# Altium integrated library Lichuang Electronic Technology.IntLib: 5 symbols
Pins are listed as number, name and electrical type; pins without a type are passive.

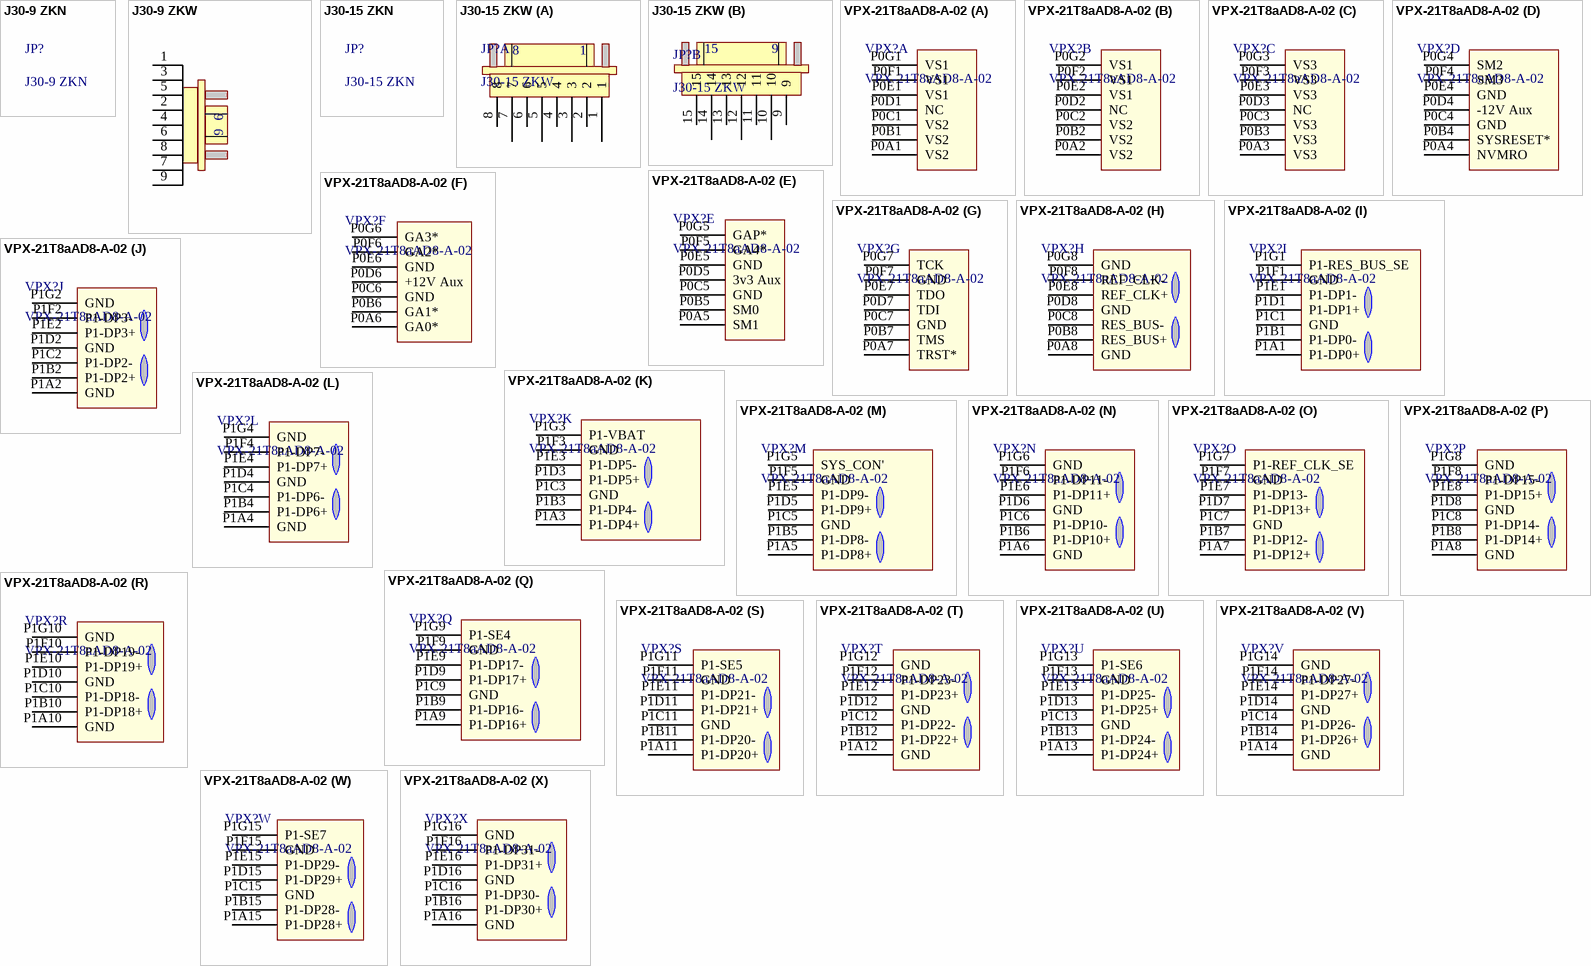
[diagram p0: symbols J30-9 ZKN to VPX-21T8aAD8-A-02]

## J30-9 ZKN
designator JP?
J30、J30G直插印制板N型; Revised By: Z_xiao; ComponentLink1Description: Datasheet; ComponentLink1URL: https://newwezhanoss.oss-cn-hangzhou.aliyuncs.com/contents/sitefiles2022/10113390/files/259706..pdf?Expires=1654738659&OSSAccessKeyId=LTAIekGM1705vEQp&Signature=t6hiNJjp8JnK%2F00JWUBUhsjD5Xc%3D&response-content-disposition=inline%3Bfilename%3DJ30J%25e8%25b5%2584%25e6%2596%2599.pdf&response-content-type=application%2Fpdf

## J30-9 ZKW
designator JP?
J30、J30G 弯插印制板W型; Revised By: Z_xiao; ComponentLink1Description: Datasheet; ComponentLink1URL: https://newwezhanoss.oss-cn-hangzhou.aliyuncs.com/contents/sitefiles2022/10113390/files/259706..pdf?Expires=1654738659&OSSAccessKeyId=LTAIekGM1705vEQp&Signature=t6hiNJjp8JnK%2F00JWUBUhsjD5Xc%3D&response-content-disposition=inline%3Bfilename%3DJ30J%25e8%25b5%2584%25e6%2596%2599.pdf&response-content-type=application%2Fpdf
footprint J30-9ZKW
pins: 1, 2, 3, 4, 5, 6, 7, 8, 9

## J30-15 ZKN
designator JP?
J30、J30G直插印制板N型; Revised By: Z_xiao; ComponentLink1Description: Datasheet; ComponentLink1URL: https://newwezhanoss.oss-cn-hangzhou.aliyuncs.com/contents/sitefiles2022/10113390/files/259706..pdf?Expires=1654738659&OSSAccessKeyId=LTAIekGM1705vEQp&Signature=t6hiNJjp8JnK%2F00JWUBUhsjD5Xc%3D&response-content-disposition=inline%3Bfilename%3DJ30J%25e8%25b5%2584%25e6%2596%2599.pdf&response-content-type=application%2Fpdf

## J30-15 ZKW
designator JP?
J30、J30G 弯插印制板W型; Revised By: Z_xiao; ComponentLink1Description: Datasheet; ComponentLink1URL: https://newwezhanoss.oss-cn-hangzhou.aliyuncs.com/contents/sitefiles2022/10113390/files/259706..pdf?Expires=1654738659&OSSAccessKeyId=LTAIekGM1705vEQp&Signature=t6hiNJjp8JnK%2F00JWUBUhsjD5Xc%3D&response-content-disposition=inline%3Bfilename%3DJ30J%25e8%25b5%2584%25e6%2596%2599.pdf&response-content-type=application%2Fpdf
footprint J30-15ZKW (弯座)
part A pins: 1, 2, 3, 4, 5, 6, 7, 8
part B pins: 9, 10, 11, 12, 13, 14, 15

## VPX-21T8aAD8-A-02
designator VPX?
VPX 系列模块化加固型混装连接器
footprint VPX-21T8aAD8-A-02
part A pins: P0A1 VS2, P0B1 VS2, P0C1 VS2, P0D1 NC, P0E1 VS1, P0F1 VS1, P0G1 VS1
part B pins: P0A2 VS2, P0B2 VS2, P0C2 VS2, P0D2 NC, P0E2 VS1, P0F2 VS1, P0G2 VS1
part C pins: P0A3 VS3, P0B3 VS3, P0C3 VS3, P0D3 NC, P0E3 VS3, P0F3 VS3, P0G3 VS3
part D pins: P0A4 NVMRO, P0B4 SYSRESET*, P0C4 GND, P0D4 -12V Aux, P0E4 GND, P0F4 SM3, P0G4 SM2
part E pins: P0A5 SM1, P0B5 SM0, P0C5 GND, P0D5 3v3 Aux, P0E5 GND, P0F5 GA4*, P0G5 GAP*
part F pins: P0A6 GA0*, P0B6 GA1*, P0C6 GND, P0D6 +12V Aux, P0E6 GND, P0F6 GA2*, P0G6 GA3*
part G pins: P0A7 TRST*, P0B7 TMS, P0C7 GND, P0D7 TDI, P0E7 TDO, P0F7 GND, P0G7 TCK
part H pins: P0A8 GND, P0B8 RES_BUS+, P0C8 RES_BUS-, P0D8 GND, P0E8 REF_CLK+, P0F8 REF_CLK-, P0G8 GND
part I pins: P1A1 P1-DP0+, P1B1 P1-DP0-, P1C1 GND, P1D1 P1-DP1+, P1E1 P1-DP1-, P1F1 GND, P1G1 P1-RES_BUS_SE
part J pins: P1A2 GND, P1B2 P1-DP2+, P1C2 P1-DP2-, P1D2 GND, P1E2 P1-DP3+, P1F2 P1-DP3-, P1G2 GND
part K pins: P1A3 P1-DP4+, P1B3 P1-DP4-, P1C3 GND, P1D3 P1-DP5+, P1E3 P1-DP5-, P1F3 GND, P1G3 P1-VBAT
part L pins: P1A4 GND, P1B4 P1-DP6+, P1C4 P1-DP6-, P1D4 GND, P1E4 P1-DP7+, P1F4 P1-DP7-, P1G4 GND
part M pins: P1A5 P1-DP8+, P1B5 P1-DP8-, P1C5 GND, P1D5 P1-DP9+, P1E5 P1-DP9-, P1F5 GND, P1G5 SYS_CON'
part N pins: P1A6 GND, P1B6 P1-DP10+, P1C6 P1-DP10-, P1D6 GND, P1E6 P1-DP11+, P1F6 P1-DP11-, P1G6 GND
part O pins: P1A7 P1-DP12+, P1B7 P1-DP12-, P1C7 GND, P1D7 P1-DP13+, P1E7 P1-DP13-, P1F7 GND, P1G7 P1-REF_CLK_SE
part P pins: P1A8 GND, P1B8 P1-DP14+, P1C8 P1-DP14-, P1D8 GND, P1E8 P1-DP15+, P1F8 P1-DP15-, P1G8 GND
part Q pins: P1A9 P1-DP16+, P1B9 P1-DP16-, P1C9 GND, P1D9 P1-DP17+, P1E9 P1-DP17-, P1F9 GND, P1G9 P1-SE4
part R pins: P1A10 GND, P1B10 P1-DP18+, P1C10 P1-DP18-, P1D10 GND, P1E10 P1-DP19+, P1F10 P1-DP19-, P1G10 GND
part S pins: P1A11 P1-DP20+, P1B11 P1-DP20-, P1C11 GND, P1D11 P1-DP21+, P1E11 P1-DP21-, P1F11 GND, P1G11 P1-SE5
part T pins: P1A12 GND, P1B12 P1-DP22+, P1C12 P1-DP22-, P1D12 GND, P1E12 P1-DP23+, P1F12 P1-DP23-, P1G12 GND
part U pins: P1A13 P1-DP24+, P1B13 P1-DP24-, P1C13 GND, P1D13 P1-DP25+, P1E13 P1-DP25-, P1F13 GND, P1G13 P1-SE6
part V pins: P1A14 GND, P1B14 P1-DP26+, P1C14 P1-DP26-, P1D14 GND, P1E14 P1-DP27+, P1F14 P1-DP27-, P1G14 GND
part W pins: P1A15 P1-DP28+, P1B15 P1-DP28-, P1C15 GND, P1D15 P1-DP29+, P1E15 P1-DP29-, P1F15 GND, P1G15 P1-SE7
part X pins: P1A16 GND, P1B16 P1-DP30+, P1C16 P1-DP30-, P1D16 GND, P1E16 P1-DP31+, P1F16 P1-DP31-, P1G16 GND